# Altium footprint library HC-49U.PcbLib: 1 footprints
Each footprint in its own frame and in the unit in brackets; x right, y up, seen from the top. Pads: shape width x height; smd on the part's side, far side on the other; paste and mask are expansions set on the pad; w line width, h text height; cw(c..) or ccw(c..) is an arc to the next point about the centre after c.
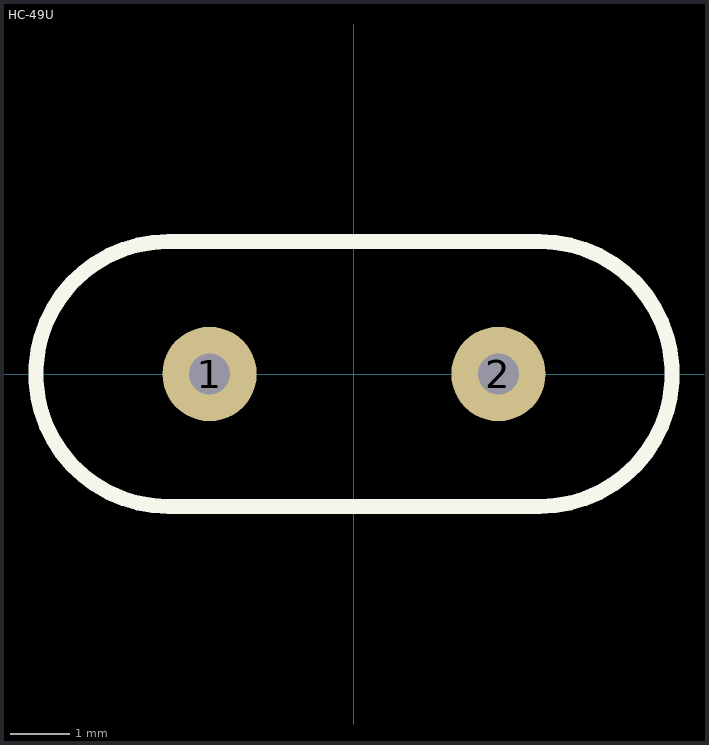
[diagram p0: the footprint, top view; thin cyan lines are the x and y axes]

## HC-49U [mm]
pads (2):
  round 1.6 hole 0.7: 1(-2.45,0) 2(2.45,0)
Top Overlay:
  lines w0.254: -3.15,-2.248 cw(c-3.15,0) -3.15,2.248 3.15,2.248 cw(c3.15,0) 3.15,-2.248 -3.15,-2.248
3D body: height 13.1, standoff -2.9, extent -5.398,-2.245 5.402,2.255